# EAGLE library part ERF8-020-XX.X-X-DV (library hsk_2012)
ERF8 Series - Female
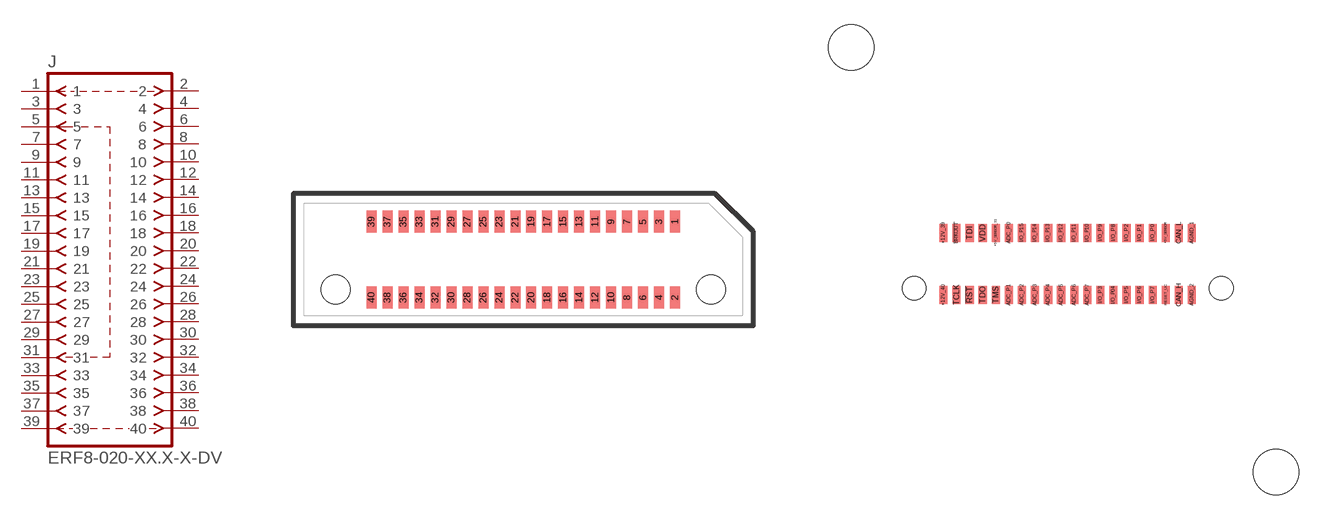
[diagram p2: symbol with the pads of ERF8-020-XX.X-X-DV; footprints ERF8-020-XX.X-X-DV, ERF8-020-XX-DRILLS]

Designator prefix J

## ERF8-020-XX.X-X-DV_STD  [ERF8-020-XX.X-X-DV]
1  1  pas
2  2  pas
3  3  pas
4  4  pas
5  5  pas
6  6  pas
7  7  pas
8  8  pas
9  9  pas
10  10  pas
11  11  pas
12  12  pas
13  13  pas
14  14  pas
15  15  pas
16  16  pas
17  17  pas
18  18  pas
19  19  pas
20  20  pas
21  21  pas
22  22  pas
23  23  pas
24  24  pas
25  25  pas
26  26  pas
27  27  pas
28  28  pas
29  29  pas
30  30  pas
31  31  pas
32  32  pas
33  33  pas
34  34  pas
35  35  pas
36  36  pas
37  37  pas
38  38  pas
39  39  pas
40  40  pas

## ERF8-020-XX.X-X-DVCAN_BOARD  [ERF8-020-XX-DRILLS]
!BRKOUT  37  pas
!RST  36  pas
+5V_SENSOR  5  pas
+5V_SENSOR_31  31  pas
+12V_39  39  pas
+12V_40  40  pas
ADC_P0  29  pas
ADC_P1  30  pas
ADC_P2  28  pas
ADC_P3  26  pas
ADC_P4  24  pas
ADC_P5  22  pas
ADC_P6  20  pas
ADC_P7  18  pas
AGND_1  1  pas
AGND_2  2  pas
CAN_H  4  pas
CAN_L  3  pas
I/O_P0  7  pas
I/O_P1  9  pas
I/O_P2  11  pas
I/O_P3  16  pas
I/O_P04  14  pas
I/O_P5  12  pas
I/O_P6  10  pas
I/O_P7  8  pas
I/O_P8  13  pas
I/O_P9  15  pas
I/O_P10  17  pas
I/O_P11  19  pas
I/O_P12  21  pas
I/O_P13  23  pas
I/O_P14  25  pas
I/O_P15  27  pas
RESET_UC  6  pas
TCLK  38  pas
TDI  35  pas
TDO  34  pas
TMS  32  pas
VDD  33  pas

## ERF8-020-XX.X-X-DV_NEW_CAN  [ERF8-020-XX-NEW_DRILLS]
Pads as for ERF8-020-XX-DRILLS

## Footprint ERF8-020-XX.X-X-DV (pad centres in mm)
0.8mm Edge Rate Terminal Assembly FEMALE, Double Vertical Row, 20 Position
smd 0.5 x 1.1: 1 7.6,1.9; 2 7.6,-1.9; 3 6.8,1.9; 4 6.8,-1.9; 5 6,1.9; 6 6,-1.9; 7 5.2,1.9; 8 5.2,-1.9; 9 4.4,1.9; 10 4.4,-1.9; 11 3.6,1.9; 12 3.6,-1.9; 13 2.8,1.9; 14 2.8,-1.9; 15 2,1.9; 16 2,-1.9; 17 1.2,1.9; 18 1.2,-1.9; 19 0.4,1.9; 20 0.4,-1.9; 21 -0.4,1.9; 22 -0.4,-1.9; 23 -1.2,1.9; 24 -1.2,-1.9; 25 -2,1.9; 26 -2,-1.9; 27 -2.8,1.9; 28 -2.8,-1.9; 29 -3.6,1.9; 30 -3.6,-1.9; 31 -4.4,1.9; 32 -4.4,-1.9; 33 -5.2,1.9; 34 -5.2,-1.9; 35 -6,1.9; 36 -6,-1.9; 37 -6.8,1.9; 38 -6.8,-1.9; 39 -7.6,1.9; 40 -7.6,-1.9
hole 1.45 at 9.4,-1.5
hole 1.45 at -9.4,-1.5

## Footprint ERF8-020-XX-DRILLS (pad centres in mm)
smd 0.5 x 1.1: !BRKOUT -6.8,1.9; !RST -6,-1.9; +5V_SENSOR 6,1.9; +5V_SENSOR_31 -4.4,1.9; +12V_39 -7.6,1.9; +12V_40 -7.6,-1.9; ADC_P0 -3.6,1.9; ADC_P1 -3.6,-1.9; ADC_P2 -2.8,-1.9; ADC_P3 -2,-1.9; ADC_P4 -1.2,-1.9; ADC_P5 -0.4,-1.9; ADC_P6 0.4,-1.9; ADC_P7 1.2,-1.9; AGND_1 7.6,1.9; AGND_2 7.6,-1.9; CAN_H 6.8,-1.9; CAN_L 6.8,1.9; I/O_P0 5.2,1.9; I/O_P1 4.4,1.9; I/O_P2 3.6,1.9; I/O_P3 2,-1.9; I/O_P04 2.8,-1.9; I/O_P5 3.6,-1.9; I/O_P6 4.4,-1.9; I/O_P7 5.2,-1.9; I/O_P8 2.8,1.9; I/O_P9 2,1.9; I/O_P10 1.2,1.9; I/O_P11 0.4,1.9; I/O_P12 -0.4,1.9; I/O_P13 -1.2,1.9; I/O_P14 -2,1.9; I/O_P15 -2.8,1.9; RESET_UC 6,-1.9; TCLK -6.8,-1.9; TDI -6,1.9; TDO -5.2,-1.9; TMS -4.4,-1.9; VDD -5.2,1.9
hole 1.45 at 9.4,-1.5
hole 1.45 at -9.4,-1.5
hole 2.8 at -13.25,13.25
hole 2.8 at 12.75,-12.75

## Footprint ERF8-020-XX-NEW_DRILLS (pad centres in mm)
drill 0.83 pad 1.8: 41 -11,0; 44 11,0
smd 0.5 x 1.1: !BRKOUT -6.8,1.9; !RST -6,-1.9; +5V_SENSOR 6,1.9; +5V_SENSOR_31 -4.4,1.9; +12V_39 -7.6,1.9; +12V_40 -7.6,-1.9; ADC_P0 -3.6,1.9; ADC_P1 -3.6,-1.9; ADC_P2 -2.8,-1.9; ADC_P3 -2,-1.9; ADC_P4 -1.2,-1.9; ADC_P5 -0.4,-1.9; ADC_P6 0.4,-1.9; ADC_P7 1.2,-1.9; AGND_1 7.6,1.9; AGND_2 7.6,-1.9; CAN_H 6.8,-1.9; CAN_L 6.8,1.9; I/O_P0 5.2,1.9; I/O_P1 4.4,1.9; I/O_P2 3.6,1.9; I/O_P3 2,-1.9; I/O_P04 2.8,-1.9; I/O_P5 3.6,-1.9; I/O_P6 4.4,-1.9; I/O_P7 5.2,-1.9; I/O_P8 2.8,1.9; I/O_P9 2,1.9; I/O_P10 1.2,1.9; I/O_P11 0.4,1.9; I/O_P12 -0.4,1.9; I/O_P13 -1.2,1.9; I/O_P14 -2,1.9; I/O_P15 -2.8,1.9; RESET_UC 6,-1.9; TCLK -6.8,-1.9; TDI -6,1.9; TDO -5.2,-1.9; TMS -4.4,-1.9; VDD -5.2,1.9
hole 1.45 at 9.4,-1.5
hole 1.45 at -9.4,-1.5
hole 2.8 at -13.25,13.25
hole 2.8 at 12.75,-12.75